# Altium footprint library AD_8-WFDFN_EXPOSED_PAD.PcbLib: 1 footprints
Each footprint in its own frame and in the unit in brackets; x right, y up, seen from the top. Pads: shape width x height; smd on the part's side, far side on the other; paste and mask are expansions set on the pad; w line width, h text height; cw(c..) or ccw(c..) is an arc to the next point about the centre after c.
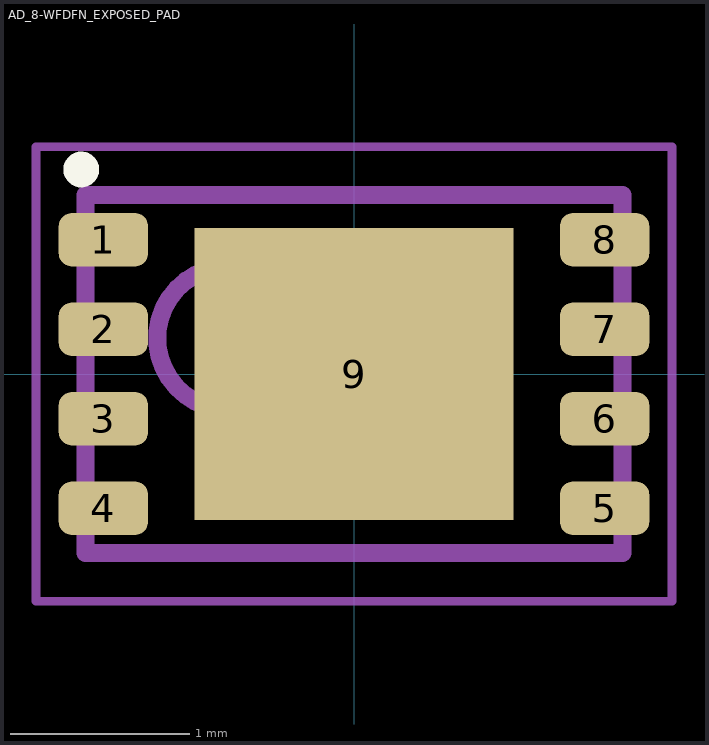
[diagram p0: the footprint, top view; thin cyan lines are the x and y axes]

## AD_8-WFDFN_EXPOSED_PAD [mm] "LFCSP, 8-Leads, Body 3.00x2.00mm, Pitch 0.50mm, Thermal Pad 1.78x1.63mm, IPC Medium Density"
height 0.8
pads (9):
  rrect50% 0.5x0.3 smd: 1(-1.4,0.75) 2(-1.4,0.25) 3(-1.4,-0.25) 4(-1.4,-0.75) 5(1.4,-0.75) 6(1.4,-0.25) 7(1.4,0.25) 8(1.4,0.75)
  rect 1.78x1.63 smd: 9(0,0)
Top Overlay:
  circle w0.1: c-1.524,1.143 r0.05
Mechanical 13:
  circle w0.1: c-0.7,0.2 r0.4
  lines w0.1: -1.5,-1 -1.5,1 1.5,1 1.5,-1 -1.5,-1
Mechanical 15:
  lines w0.05: -1.778,-1.27 -1.778,1.27 1.778,1.27 1.778,-1.27 -1.778,-1.27
  lines w0.1: -0.5,0 0.5,0 ; 0,-0.5 0,0.5
3D body: height 0.8, standoff 0, extent -1.5,-1 1.5,1